# EAGLE library part K4S561632C-TC/L75 (library RT5350F_OLinuXino_Rev_B)
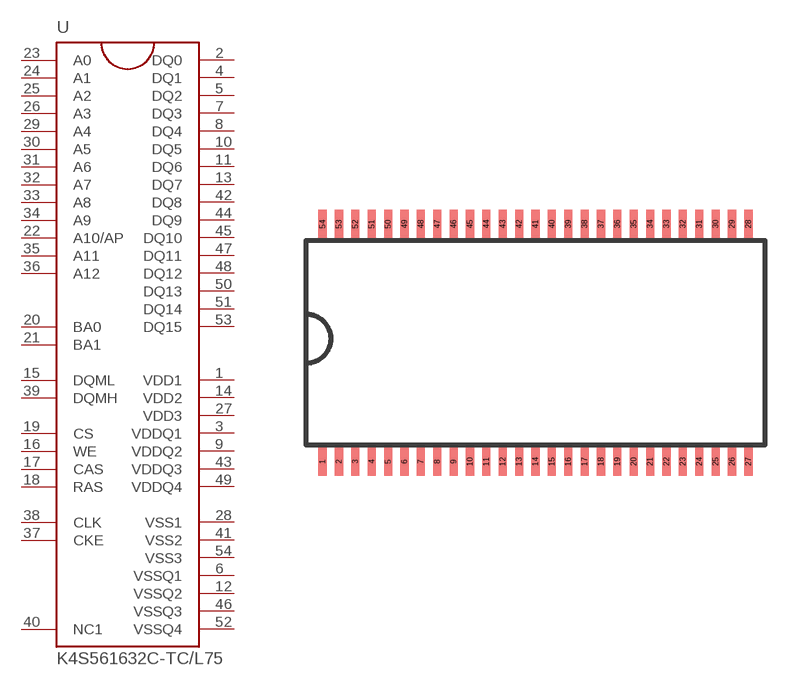
[diagram p3: symbol with the pads of 54TSOPII; footprint 54TSOPII]

Designator prefix U

## K4S561632C-TC/L75  [54TSOPII]
1  VDD1  pwr
2  DQ0
3  VDDQ1  pwr
4  DQ1
5  DQ2
6  VSSQ1  pwr
7  DQ3
8  DQ4
9  VDDQ2  pwr
10  DQ5
11  DQ6
12  VSSQ2  pwr
13  DQ7
14  VDD2  pwr
15  DQML  in
16  WE  in
17  CAS  in
18  RAS  in
19  CS  in
20  BA0  in
21  BA1  in
22  A10/AP  in
23  A0  in
24  A1  in
25  A2  in
26  A3  in
27  VDD3  pwr
28  VSS1  pwr
29  A4  in
30  A5  in
31  A6  in
32  A7  in
33  A8  in
34  A9  in
35  A11  in
36  A12  in
37  CKE  in
38  CLK  in
39  DQMH  in
40  NC1  nc
41  VSS2  pwr
42  DQ8
43  VDDQ3  pwr
44  DQ9
45  DQ10
46  VSSQ3  pwr
47  DQ11
48  DQ12
49  VDDQ4  pwr
50  DQ13
51  DQ14
52  VSSQ4  pwr
53  DQ15
54  VSS3  pwr

## Footprint 54TSOPII (pad centres in mm)
smd 0.4 x 1.4: 1 -10.4,-6; 2 -9.6,-6; 3 -8.8,-6; 4 -8,-6; 5 -7.2,-6; 6 -6.4,-6; 7 -5.6,-6; 8 -4.8,-6; 9 -4,-6; 10 -3.2,-6; 11 -2.4,-6; 12 -1.6,-6; 13 -0.8,-6; 14 0,-6; 15 0.8,-6; 16 1.6,-6; 17 2.4,-6; 18 3.2,-6; 19 4,-6; 20 4.8,-6; 21 5.6,-6; 22 6.4,-6; 23 7.2,-6; 24 8,-6; 25 8.8,-6; 26 9.6,-6; 27 10.4,-6; 28 10.4,5.6; 29 9.6,5.6; 30 8.8,5.6; 31 8,5.6; 32 7.2,5.6; 33 6.4,5.6; 34 5.6,5.6; 35 4.8,5.6; 36 4,5.6; 37 3.2,5.6; 38 2.4,5.6; 39 1.6,5.6; 40 0.8,5.6; 41 0,5.6; 42 -0.8,5.6; 43 -1.6,5.6; 44 -2.4,5.6; 45 -3.2,5.6; 46 -4,5.6; 47 -4.8,5.6; 48 -5.6,5.6; 49 -6.4,5.6; 50 -7.2,5.6; 51 -8,5.6; 52 -8.8,5.6; 53 -9.6,5.6; 54 -10.4,5.6